# EAGLE library part ESP32-S3-MINI-1-N8 (library ESP32-S3-MINI-1-N8)
WiFi Development Tools - 802.11 [Engineering Samples] SMD Module, ESP32-S3FN8, 8 MB SPI Flash, PCB Antenna Source: Datasheet <https://www.espressif.com/sites/default/files/documentation/esp32-s3-mini-1_mini-1u_datasheet_en.pdf>
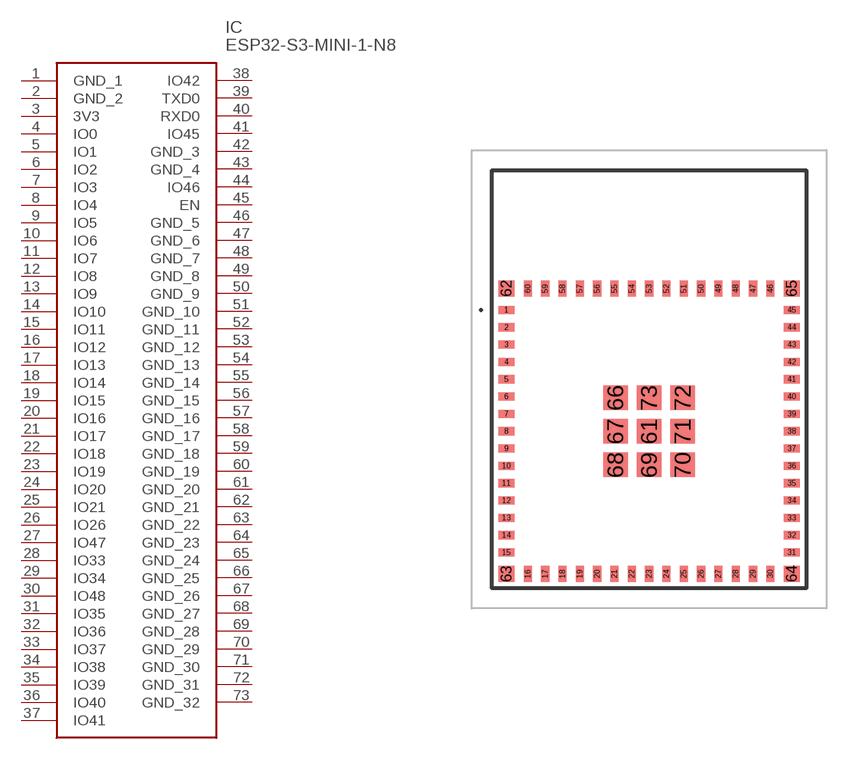
[diagram p0: symbol with the pads of ESP32S3MINI1N8; footprint ESP32S3MINI1N8]

Designator prefix IC

## ESP32-S3-MINI-1-N8 (Description: WiFi Development Tools - 802.11 [Engineering Samples] SMD Module, ESP32-S3FN8, 8 MB SPI Flash, PCB Antenna; Height: 2.55mm; Manufacturer_Name: Espressif Systems; Manufacturer_Part_Number: ESP32-S3-MINI-1-N8; Mouser_Part_Number: 356-ESP32-S3-MINI1N8; Mouser_Price-Stock: https://www.mouser.co.uk/ProductDetail/Espressif-Systems/ESP32-S3-MINI-1-N8?qs=XAiT9M5g4x82rl6F%2FIYUQg%3D%3D)  [ESP32S3MINI1N8]
1  GND_1
2  GND_2
3  3V3
4  IO0
5  IO1
6  IO2
7  IO3
8  IO4
9  IO5
10  IO6
11  IO7
12  IO8
13  IO9
14  IO10
15  IO11
16  IO12
17  IO13
18  IO14
19  IO15
20  IO16
21  IO17
22  IO18
23  IO19
24  IO20
25  IO21
26  IO26
27  IO47
28  IO33
29  IO34
30  IO48
31  IO35
32  IO36
33  IO37
34  IO38
35  IO39
36  IO40
37  IO41
38  IO42
39  TXD0
40  RXD0
41  IO45
42  GND_3
43  GND_4
44  IO46
45  EN
46  GND_5
47  GND_6
48  GND_7
49  GND_8
50  GND_9
51  GND_10
52  GND_11
53  GND_12
54  GND_13
55  GND_14
56  GND_15
57  GND_16
58  GND_17
59  GND_18
60  GND_19
61  GND_20
62  GND_21
63  GND_22
64  GND_23
65  GND_24
66  GND_25
67  GND_26
68  GND_27
69  GND_28
70  GND_29
71  GND_30
72  GND_31
73  GND_32

## Footprint ESP32S3MINI1N8 (pad centres in mm)
ESP32-S3-MINI-1-N8-1_2024
smd 0.8 x 0.4: 1 -7,5.95; 2 -7,5.1; 3 -7,4.25; 4 -7,3.4; 5 -7,2.55; 6 -7,1.7; 7 -7,0.85; 8 -7,0; 9 -7,-0.85; 10 -7,-1.7; 11 -7,-2.55; 12 -7,-3.4; 13 -7,-4.25; 14 -7,-5.1; 15 -7,-5.95; 31 7,-5.95; 32 7,-5.1; 33 7,-4.25; 34 7,-3.4; 35 7,-2.55; 36 7,-1.7; 37 7,-0.85; 38 7,0; 39 7,0.85; 40 7,1.7; 41 7,2.55; 42 7,3.4; 43 7,4.25; 44 7,5.1; 45 7,5.95
smd 0.4 x 0.8: 16 -5.95,-7; 17 -5.1,-7; 18 -4.25,-7; 19 -3.4,-7; 20 -2.55,-7; 21 -1.7,-7; 22 -0.85,-7; 23 0,-7; 24 0.85,-7; 25 1.7,-7; 26 2.55,-7; 27 3.4,-7; 28 4.25,-7; 29 5.1,-7; 30 5.95,-7; 46 5.95,7; 47 5.1,7; 48 4.25,7; 49 3.4,7; 50 2.55,7; 51 1.7,7; 52 0.85,7; 53 0,7; 54 -0.85,7; 55 -1.7,7; 56 -2.55,7; 57 -3.4,7; 58 -4.25,7; 59 -5.1,7; 60 -5.95,7
smd 1.2 x 1.2: 61 0,0; 66 -1.65,1.65; 67 -1.65,0; 68 -1.65,-1.65; 69 0,-1.65; 70 1.65,-1.65; 71 1.65,0; 72 1.65,1.65; 73 0,1.65
smd 0.8 x 0.8: 62 -7,7; 63 -7,-7; 64 7,-7; 65 7,7